# Altium schematic symbol library voltage-regulator.SchLib: 6 symbols
Pins are listed as number, name and electrical type; pins without a type are passive.

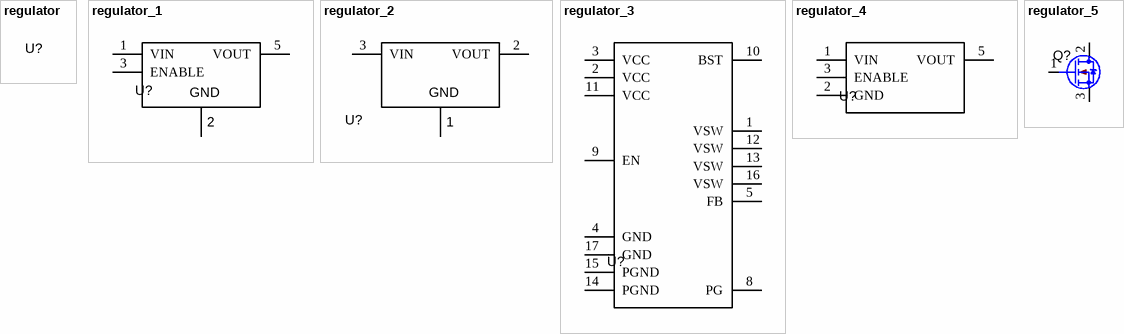
[diagram p0: symbols regulator to regulator_5]

## regulator
designator U?
Template

## regulator_1
designator U?
LDO fixed, 3.3V output, 0.2V dropout, 200mA; Manufacturer 1: Toshiba Semiconductor and Storage; Manufacturer Part Number 1: TCR2EF33,LM(CT; Supplier 1: Digi-Key; Supplier Part Number 1: TCR2EF33LM(CTCT-ND; Output voltage: 3.3V; Dropout: 0.2V; Current: 200mA; Link: https://www.digikey.no/product-detail/en/toshiba-semiconductor-and-storage/TCR2EF33-LM-CT/TCR2EF33LM-CTCT-ND/4503328
footprint TCR2EF33,LM(CT (SOT23, 5-Leads, Body 2.90x2.80mm, Pitch 0.95mm, IPC Medium Density)
pins: 1 VIN, 2, 3 ENABLE, 5 VOUT
text: GND

## regulator_2
designator U?
LDO fixed, 3.3V output, 1.2V dropout, 1A; Manufacturer 1: Diodes Incorporated; Manufacturer Part Number 1: ZLDO1117K33TC; Supplier 1: Digi-Key; Supplier Part Number 1: ZLDO1117K33DICT-ND; Output voltage: 3.3V; Dropout: 1.2V; Current: 1A; Link: https://www.digikey.no/product-detail/en/diodes-incorporated/ZLDO1117K33TC/ZLDO1117K33DICT-ND/2095619
footprint ZLDO1117K33TC (D-PAK, 3-Pads, Body 6.45x6.59mm (max), IPC Medium Density)
pins: 1, 2 VOUT, 3 VIN
text: GND

## regulator_3
designator U?
Buck, fixed 5V, 1A, QFN; Manufacturer 1: Semtech Corporation; Manufacturer Part Number 1: TS30011-M050QFNR; Supplier 1: Digi-Key; Supplier Part Number 1: TS30011-M050QFNRTR-ND; Link: https://www.digikey.no/en/products/detail/TS30011-M050QFNR/TS30011-M050QFNRCT-ND/5456415?itemSeq=389522950
footprint TS30011-M050QFNR (QFN, 16-Leads, Body 3.00x3.00mm, Pitch 0.50mm, Thermal Pad 1.68x1.68mm, IPC Medium Density)
pins: 1 VSW, 2 VCC, 3 VCC, 4 GND, 5 FB, 8 PG, 9 EN, 10 BST, 11 VCC, 12 VSW, 13 VSW, 14 PGND, 15 PGND, 16 VSW, 17 GND

## regulator_4
designator U?
LDO fixed, 3.3V output, 0.2V dropout, 250mA; Manufacturer 1: Diodes Incorporated; Manufacturer Part Number 1: AP2139AK-3.3TRG1; Supplier 1: Digi-Key; Supplier Part Number 1: AP2139AK-3.3TRG1DITR-ND; Output voltage: 3.3V; Dropout: 0.2V; Current: 250mA; Link: https://www.digikey.no/en/products/detail/diodes-incorporated/AP2139AK-3-3TRG1/4470806
footprint AP2139AK-3.3TRG1 (SOT23, 5-Leads, Body 2.96x2.83mm, Pitch 0.95mm, IPC Medium Density)
pins: 1 VIN, 2 GND, 3 ENABLE, 5 VOUT

## regulator_5
designator Q?
IRF740STRLPBF; ComponentLink1Description: New link; ComponentLink1URL: https://www.digikey.ca/en/products/detail/vishay-siliconix/IRF740STRLPBF/856617?s=N4IgTCBcDaIAQB0AuBJASgMQOwBYAMAygCpoAyACgEIYgC6AvkA
footprint IRF740STRLPBF (D2-PAK, 3-Pads, Body 7.93x8.70mm (max), IPC Medium Density)
pins: 1 G, 2 D, 3 S